# Altium footprint library Switches.PcbLib: 3 footprints
Each footprint in its own frame and in the unit in brackets; x right, y up, seen from the top. Pads: shape width x height; smd on the part's side, far side on the other; paste and mask are expansions set on the pad; w line width, h text height; cw(c..) or ccw(c..) is an arc to the next point about the centre after c.
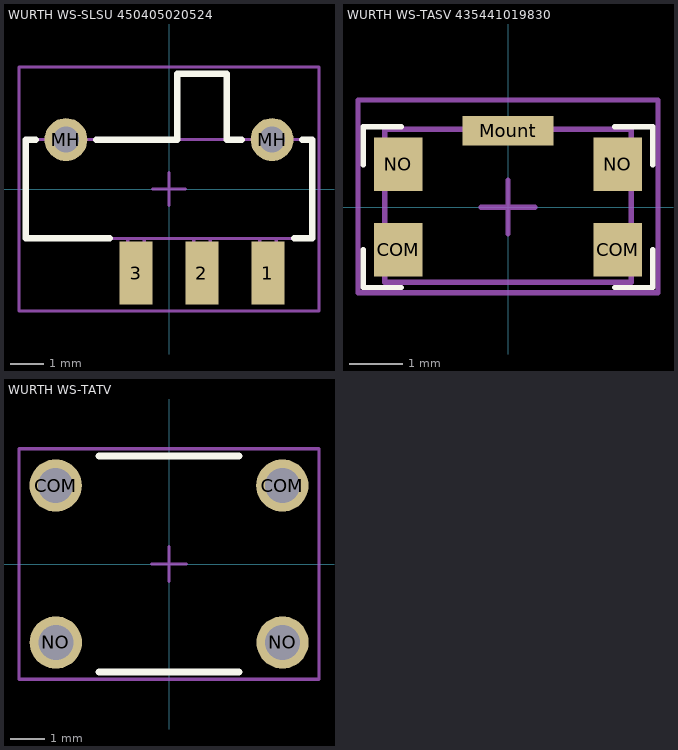
[diagram p0: the footprints below, top view; thin cyan lines are the x and y axes]

## WURTH WS-SLSU 450405020524 [mm] "SMT Mini Slide Switch, Same side connection"
height 2
pads (5):
  rect 1x1.9 smd: 1(3,-2.55) 2(1,-2.55) 3(-1,-2.55)
  round 1.3 hole 0.8: MH(-3.125,1.5) MH(3.125,1.5)
Top Overlay:
  lines w0.2: -4.05,1.5 -4.35,1.5 -4.35,-1.5 -1.8,-1.5 ; -2.2,1.5 0.25,1.5 0.25,3.5 1.75,3.5 1.75,1.5 2.2,1.5 ; 3.8,-1.5 4.35,-1.5 4.35,1.5 4.05,1.5
Top Assembly:
  lines w0.1: -1.25,-1.5 -1.25,-3 -0.75,-3 -0.75,-1.5 ; 0.25,1.5 0.25,3.5 1.75,3.5 1.75,1.5 ; 0.75,-1.5 0.75,-3 1.25,-3 1.25,-1.5 ; 2.75,-1.5 2.75,-3 3.25,-3 3.25,-1.5 ; -4.35,-1.5 4.35,-1.5 4.35,1.5 -4.35,1.5 -4.35,-1.5
Top Courtyard:
  lines w0.1: -0.5,0 0.5,0 ; 0,-0.5 0,0.5 ; -4.55,-3.7 -4.55,3.7 4.55,3.7 4.55,-3.7 -4.55,-3.7
3D body "450405020524.stp": height 1.98, standoff -0.62, extent -4.45,-3.05 4.45,3.5

## WURTH WS-TASV 435441019830 [mm] "SMT Washable Tact Switch 4.1 x 2.8 mm"
height 1.9
pads (5):
  rect 0.9x1 smd: COM(-2.05,-0.8) COM(2.05,-0.8) NO(-2.05,0.8) NO(2.05,0.8)
  rect 1.7x0.55 smd: Mount(0,1.425)
Top Overlay:
  lines w0.1: -2.7,-0.793 -2.7,-1.5 -1.993,-1.5 ; -2.7,0.793 -2.7,1.5 -1.993,1.5 ; 1.993,-1.5 2.7,-1.5 2.7,-0.793 ; 1.993,1.5 2.7,1.5 2.7,0.793
Top Assembly:
  lines w0.1: -2.3,-1.4 2.3,-1.4 2.3,1.45 -2.3,1.45 -2.3,-1.4
Top Courtyard:
  lines w0.1: -0.5,0 0.5,0 ; 0,-0.5 0,0.5 ; -2.8,-1.6 -2.8,2 2.8,2 2.8,-1.6 -2.8,-1.6
3D body "Download_435441019830_STP (rev1).stp": height 1.9, standoff -0.01, extent -2.3,-1.4 2.3,1.45

## WURTH WS-TATV [mm] "THT Tact Switch 6x6 mm height 4.3mm"
height 4.3
pads (4):
  round 1.5 hole 1: COM(-3.25,2.25) COM(3.25,2.25) NO(-3.245,-2.25) NO(3.255,-2.25)
Top Overlay:
  lines w0.2: -2,-3.1 2,-3.1 ; -2,3.1 2,3.1
Top Courtyard:
  lines w0.1: -0.5,0 0.5,0 ; 0,-0.5 0,0.5 ; -4.3,-3.3 4.3,-3.3 4.3,3.3 -4.3,3.3 -4.3,-3.3
3D body "430186043716 (rev1).stp": height 4.3, standoff -3.5, extent -3.947,-3.1 3.947,3.1